# Altium schematic symbol library LM317T.SchLib: 1 symbol
Pins are listed as number, name and electrical type; pins without a type are passive.

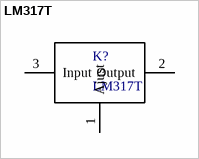
[diagram p0: symbol LM317T]

## LM317T
designator K?
TO-220 ajustable votage regulator
pins: 1 Ajust, 2 Output, 3 Input